# EAGLE library part 2510-6002 (library 4534_I2C2)
3M 2510-6002 Walled Header
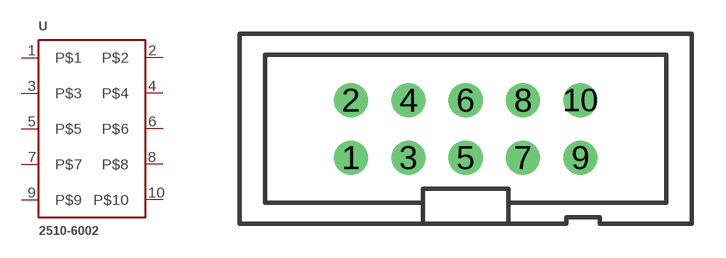
[diagram p1: symbol with the pads of 2510-6002; footprint 2510-6002]

Designator prefix -

## 2510-6002  [2510-6002]
1  P$1  pas
2  P$2  pas
3  P$3  pas
4  P$4  pas
5  P$5  pas
6  P$6  pas
7  P$7  pas
8  P$8  pas
9  P$9  pas
10  P$10  pas

## Footprint 2510-6002 (pad centres in mm)
3M 2510-6002 Walled Header
drill 1 pad 1.422: 1 -5.08,-1.27; 2 -5.08,1.27; 3 -2.54,-1.27; 4 -2.54,1.27; 5 0,-1.27; 6 0,1.27; 7 2.54,-1.27; 8 2.54,1.27; 9 5.08,-1.27; 10 5.08,1.27